# EAGLE library part TLC59401 (library ICs)
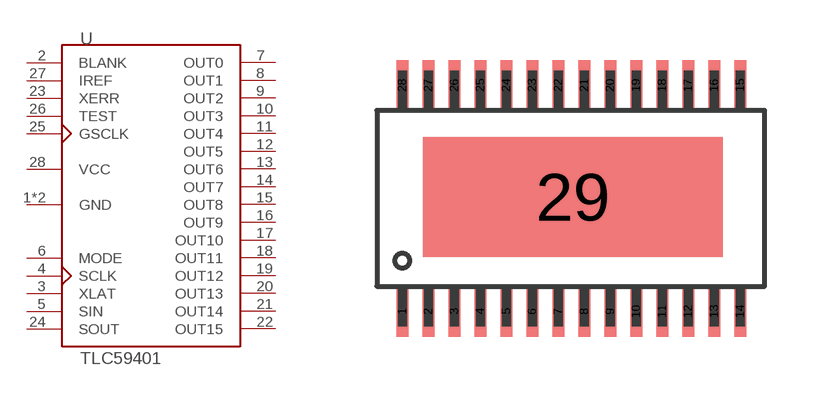
[diagram p7: symbol with the pads of HTSSOP28DCP; footprint HTSSOP28DCP]

Designator prefix -

## TLC59401  [HTSSOP28DCP]
1  GND  pwr
2  BLANK  in
3  XLAT  in
4  SCLK  in
5  SIN  in
6  MODE  in
7  OUT0  out
8  OUT1  out
9  OUT2  out
10  OUT3  out
11  OUT4  out
12  OUT5  out
13  OUT6  out
14  OUT7  out
15  OUT8  out
16  OUT9  out
17  OUT10  out
18  OUT11  out
19  OUT12  out
20  OUT13  out
21  OUT14  out
22  OUT15  out
23  XERR  out
24  SOUT  out
25  GSCLK  in
26  TEST  in
27  IREF
28  VCC  pwr
29  GND  pwr

## Footprint HTSSOP28DCP (pad centres in mm)
PowerPAD(TM) PLASTIC SMALL-OUTLINE PACKAGE DCP (R-PDSO-G**) Source: http://focus.ti.com/lit/ml/mpds041b/mpds041b.pdf / slma002.pdf
smd 0.3 x 1.27: 1 -3.17,-3.17; 2 -2.52,-3.17; 3 -1.87,-3.17; 4 -1.22,-3.17; 5 -0.57,-3.17; 6 0.08,-3.17; 7 0.73,-3.17; 8 1.38,-3.17; 9 2.03,-3.17; 10 2.68,-3.17; 11 3.33,-3.17; 12 3.98,-3.17; 13 4.63,-3.17; 14 5.28,-3.17; 15 5.28,2.49; 16 4.63,2.49; 17 3.98,2.49; 18 3.33,2.49; 19 2.68,2.49; 20 2.03,2.49; 21 1.38,2.49; 22 0.73,2.49; 23 0.08,2.49; 24 -0.57,2.49; 25 -1.22,2.49; 26 -1.87,2.49; 27 -2.52,2.49; 28 -3.17,2.49
smd 7.5 x 3: 29 1.1,-0.3